# Altium schematic symbol library Arduino pololu.SchLib: 1 symbol
Pins are listed as number, name and electrical type; pins without a type are passive.

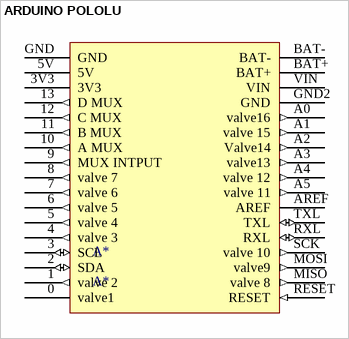
[diagram p0: symbol ARDUINO POLOLU]

## ARDUINO POLOLU
designator A*, comment A*
footprint PCBComponent_1 - duplicate
pins: 0 valve1 "digital output for valve 1", 1 valve 2 (out) "digital output for valve 2", 2 SDA (io) "SDA MASTER SLAVE", 3 SCL (io) "SCL MASTER SLAVE", 3V3 (power) "NOT USED", 4 valve 3 (out) "digital output for valve 3", 5 valve 4 (out) "digital output for valve 4", 5V "5V pololu", 6 valve 5 (out) "digital output for valve 5", 7 valve 6 (out) "digital output for valve 6", 8 valve 7 (out) "digital output", 9 MUX INTPUT (out) "MUX analog input", 10 A MUX (out) "OUTPUT A DEMUX", 11 B MUX (out) "OUTPUT B DEMUX", 12 C MUX (out) "OUTPUT C DEMUX", 13 D MUX (out) "OUTPUT D DEMUX", A0 valve16 (out) "digital output for valve 16", A1 valve 15 (out) "digital output for valve 15", A2 Valve14 (out) "digital output for valve 14", A3 valve13 (out) "digital output for valve 13", A4 valve 12 (out) "digital output for valve 12", A5 valve 11 (out) "digital output for valve 11", AREF "NOT USED", BAT+ (power) "NO USE", BAT- "NO USE", GND (power) "GND_LEFT", GND2 GND (power) "GND_RIGHT", MISO valve 8 (out) "digital output for valve 8", MOSI valve9 (out) "digital output for valve 9", RESET (in), RXL (io) "NOT USED", SCK valve 10 (out) "digital output for valve 10", TXL (io) "NOT USED", VIN (power)